# EAGLE library part PL2303 (library custom)
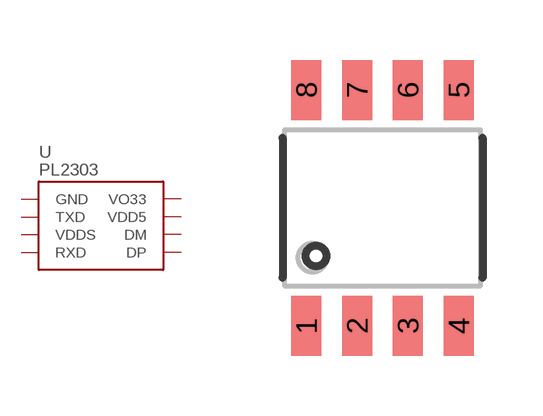
[diagram p133: symbol with the pads of 8-SOIC; footprint 8-SOIC]

Designator prefix U

## PL2303  [8-SOIC]
1  GND
2  TXD
3  VDDS
4  RXD
5  DP
6  DM
7  VDD5
8  VO33

## Footprint 8-SOIC (pad centres in mm)
smd 0.75 x 1.5: 1 -1.905,-2.95; 2 -0.635,-2.95; 3 0.635,-2.95; 4 1.905,-2.95; 5 1.905,2.95; 6 0.635,2.95; 7 -0.635,2.95; 8 -1.905,2.95